# Altium footprint library OP_Amps.PcbLib: 3 footprints
Each footprint in its own frame and in the unit in brackets; x right, y up, seen from the top. Pads: shape width x height; smd on the part's side, far side on the other; paste and mask are expansions set on the pad; w line width, h text height; cw(c..) or ccw(c..) is an arc to the next point about the centre after c.
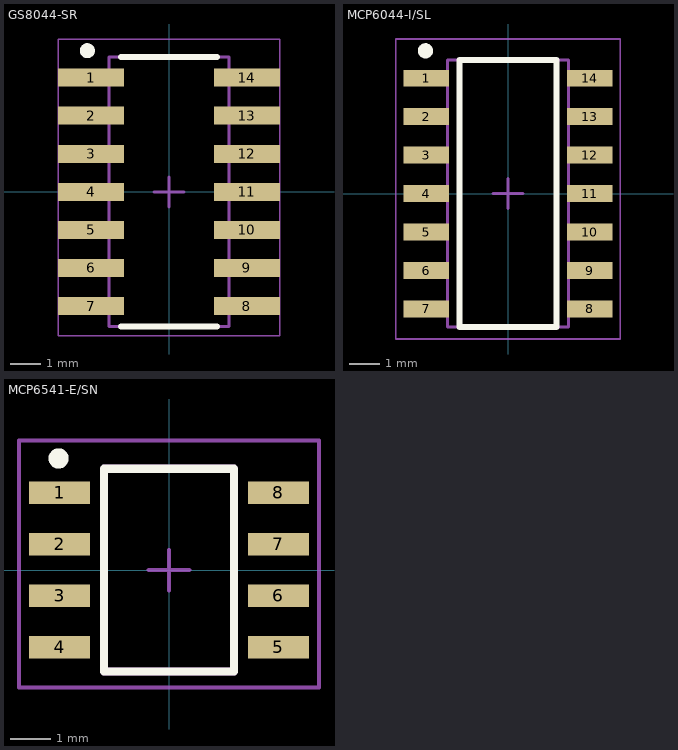
[diagram p0: the footprints below, top view; thin cyan lines are the x and y axes]

## GS8044-SR [mm]
pads (14):
  rect 2.2x0.6 smd: 1(-2.6,3.81) 2(-2.6,2.54) 3(-2.6,1.27) 4(-2.6,0) 5(-2.6,-1.27) 6(-2.6,-2.54) 7(-2.6,-3.81) 8(2.6,-3.81) 9(2.6,-2.54) 10(2.6,-1.27) 11(2.6,0) 12(2.6,1.27) 13(2.6,2.54) 14(2.6,3.81)
Top Overlay:
  circle w0.25: c-2.725,4.71 r0.125
  lines w0.2: -1.6,-4.5 1.6,-4.5 ; -1.6,4.5 1.6,4.5
Top Courtyard (Mech15):
  lines w0.05: -3.7,-4.8 -3.7,5.1 3.7,5.1 3.7,-4.8 -3.7,-4.8
  lines w0.1: -0.5,0 0.5,0 ; 0,-0.5 0,0.5 ; -2,-4.5 -2,4.5 2,4.5 2,-4.5 -2,-4.5
  text "'.Designator'" at -2.6,-3.333 h0.5
3D body "SL.STEP": height 1.75, standoff 0, extent -2.997,-4.322 2.998,4.323

## MCP6044-I/SL [mm]
pads (14):
  rect 1.5x0.55 smd: 1(-2.7,3.81) 2(-2.7,2.54) 3(-2.7,1.27) 4(-2.7,0) 5(-2.7,-1.27) 6(-2.7,-2.54) 7(-2.7,-3.81) 8(2.7,-3.81) 9(2.7,-2.54) 10(2.7,-1.27) 11(2.7,0) 12(2.7,1.27) 13(2.7,2.54) 14(2.7,3.81)
Top Overlay:
  circle w0.25: c-2.725,4.71 r0.125
  lines w0.2: -1.6,-4.4 -1.6,4.4 1.6,4.4 1.6,-4.4 -1.6,-4.4
Top Courtyard (Mech15):
  lines w0.05: -3.7,-4.8 3.7,-4.8 3.7,5.1 -3.7,5.1 -3.7,-4.8
  lines w0.1: -0.5,0 0.5,0 ; 0,-0.5 0,0.5 ; -2,-4.4 2,-4.4 2,4.4 -2,4.4 -2,-4.4
  text "'.Designator'" at -2.6,-3.333 h0.5
3D body "SL.STEP": height 1.75, standoff 0, extent -2.997,-4.322 2.998,4.323

## MCP6541-E/SN [mm]
pads (8):
  rect 1.5x0.55 smd: 1(-2.7,1.905) 2(-2.7,0.635) 3(-2.7,-0.635) 4(-2.7,-1.905) 5(2.7,-1.905) 6(2.7,-0.635) 7(2.7,0.635) 8(2.7,1.905)
Top Overlay:
  circle w0.25: c-2.725,2.755 r0.125
  lines w0.2: -1.6,-2.5 -1.6,2.5 1.6,2.5 1.6,-2.5 -1.6,-2.5
Top Courtyard (Mech15):
  lines w0.1: -0.5,0 0.5,0 ; 0,-0.5 0,0.5 ; -3.7,-2.9 3.7,-2.9 3.7,3.2 -3.7,3.2 -3.7,-2.9
  lines w0.2: -1.6,-2.5 1.6,-2.5 1.6,2.5 -1.6,2.5 -1.6,-2.5
  text "'.Designator'" at -2.81,-1.834 h0.5
3D body "MCP6541-I_SN.stp": height 1.75, standoff 0, extent -3,-2.45 3,2.45